# Altium footprint library SmartplugComponents.PcbLib: 13 footprints
Each footprint in its own frame and in the unit in brackets; x right, y up, seen from the top. Pads: shape width x height; smd on the part's side, far side on the other; paste and mask are expansions set on the pad; w line width, h text height; cw(c..) or ccw(c..) is an arc to the next point about the centre after c.
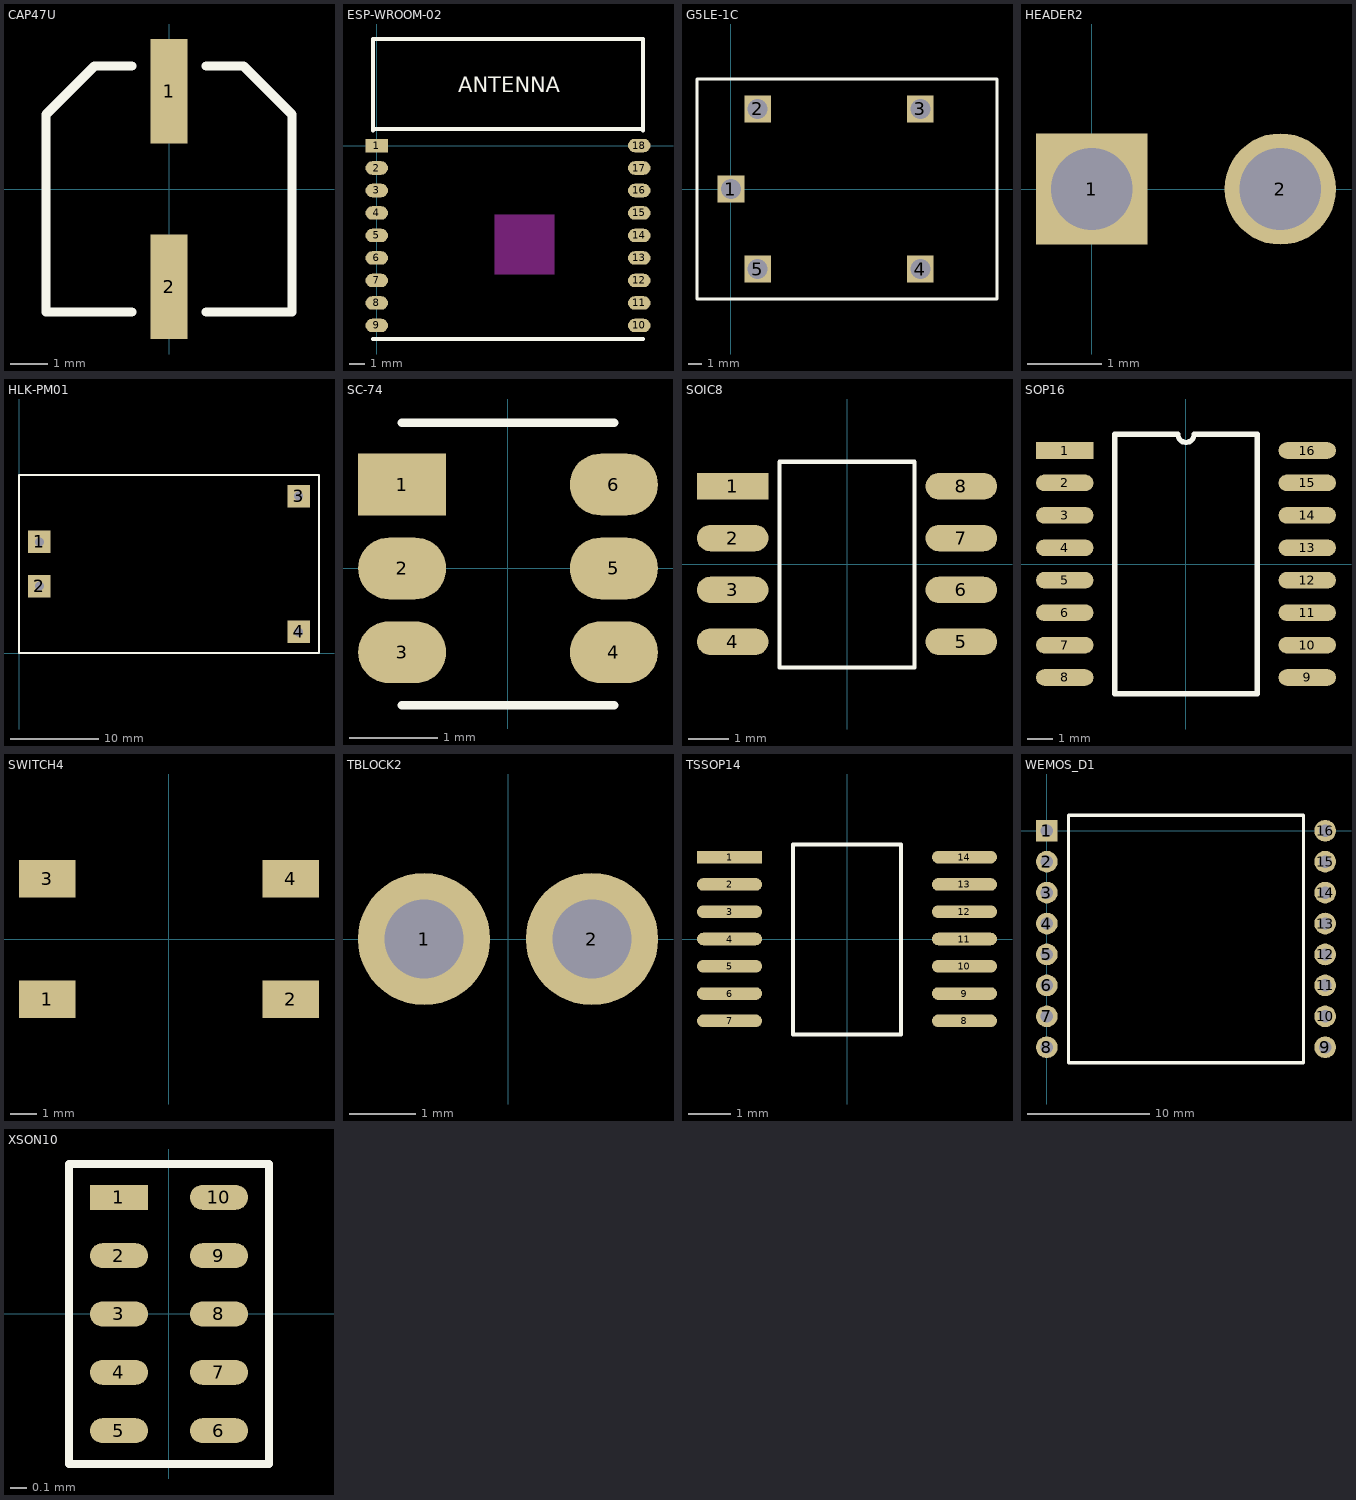
[diagram p0: the footprints below, top view; thin cyan lines are the x and y axes]

## CAP47U [mm]
pads (2):
  rect 1x2.8 smd: 1(0,2.625) 2(0,-2.625)
Top Overlay:
  lines w0.25: -1,-3.3 -3.3,-3.3 -3.3,2 -2,3.3 -1,3.3 ; 1,-3.3 3.3,-3.3 3.3,2 2,3.3 1,3.3
3D body "CAP_UCD_6P3X5P8.step": height 6.15, standoff 0, extent -3.352,-3.546 3.252,3.846

## ESP-WROOM-02 [mm]
pads (18):
  rect 1.5x0.9 smd: 1(0,0)
  oval 1.5x0.9 smd: 2(0,-1.5) 3(0,-3) 4(0,-4.5) 5(0,-6) 6(0,-7.5) 7(0,-9) 8(0,-10.5) 9(0,-12) 10(17.5,-12) 11(17.5,-10.5) 12(17.5,-9) 13(17.5,-7.5) 14(17.5,-6) 15(17.5,-4.5) 16(17.5,-3) 17(17.5,-1.5) 18(17.5,0)
Top Overlay:
  lines w0.25: -0.25,-12.9 17.75,-12.9 ; -0.25,1 -0.25,7.1 17.75,7.1 17.75,1 ; -0.25,1.1 17.75,1.1
  text "ANTENNA" at 5.45,3.55 h1.02
Keep-Out Layer:
  rectangle: 7.85,-8.61 11.85,-4.61
3D body "ESP-WROOM-02D.STEP": height 3.3, standoff 0, extent 0.05,-12.95 18.05,7.05

## G5LE-1C [mm]
pads (5):
  rect 2x2 hole 1.5: 1(0,0) 2(2,6) 3(14.2,6) 4(14.2,-6) 5(2,-6)
Top Overlay:
  lines w0.25: -2.55,-8.25 -2.55,8.25 19.95,8.25 19.95,-8.25 -2.55,-8.25
3D body "G5LE.STEP": height 19.5, standoff -3, extent -2.5,-8.2 20,8.3

## HEADER2 [mm]
pads (2):
  rect 1.5x1.5 hole 1.1: 1(0,0)
  round 1.5 hole 1.1: 2(2.54,0)
3D body "1x2 Male-Pin-Header.STEP": height 10.54, standoff -3, extent -1.343,-1.3 3.743,1.2

## HLK-PM01 [mm]
pads (4):
  rect 2.54x2.54 hole 1.016: 1(2.3,12.6) 2(2.3,7.6) 3(31.7,17.8) 4(31.7,2.4)
Top Overlay:
  lines w0.254: 0,0 34,0 34,20.2 0,20.2 0,0
3D body: height 15, standoff 0, extent 0,0 34,20.2

## SC-74 [mm]
pads (6):
  rect 1x0.7 smd mask+0.05: 1(-1.2,0.95)
  oval 1x0.7 smd mask+0.05: 2(-1.2,0) 3(-1.2,-0.95) 4(1.2,-0.95) 5(1.2,0) 6(1.2,0.95)
Top Overlay:
  lines w0.1: -1.2,-1.55 1.2,-1.55 ; -1.2,1.65 1.2,1.65
3D body "SC74-6.step": height 1.09, standoff 0, extent -1.395,-1.549 1.295,1.549

## SOIC8 [mm]
pads (8):
  rect 1.75x0.65 smd: 1(-2.8,1.905)
  oval 1.75x0.65 smd: 2(-2.8,0.635) 3(-2.8,-0.635) 4(-2.8,-1.905) 5(2.8,-1.905) 6(2.8,-0.635) 7(2.8,0.635) 8(2.8,1.905)
Top Overlay:
  lines w0.1: -1.65,-2.54 1.65,-2.54 1.65,2.505 -1.65,2.505 -1.65,-2.54
3D body "SOIC8-N_MC.step": height 1.76, standoff 0, extent -2.947,-2.451 3.047,2.451

## SOP16 [mm]
pads (16):
  rect 2.25x0.65 smd: 1(-4.75,4.445)
  oval 2.25x0.65 smd: 2(-4.75,3.175) 3(-4.75,1.905) 4(-4.75,0.635) 5(-4.75,-0.635) 6(-4.75,-1.905) 7(-4.75,-3.175) 8(-4.75,-4.445) 9(4.75,-4.445) 10(4.75,-3.175) 11(4.75,-1.905) 12(4.75,-0.635) 13(4.75,0.635) 14(4.75,1.905) 15(4.75,3.175) 16(4.75,4.445)
Top Overlay:
  lines w0.2: -2.79,-5.08 2.79,-5.08 2.79,5.08 0.318,5.08 cw(c0,5.08) -0.318,5.08 -2.79,5.08 -2.79,-5.08
3D body: height 10, standoff 0, extent -3.25,-5.15 -3.25,-5.15
3D body: height 2.65, standoff 0, extent -3.75,-5.15 3.75,5.15

## SWITCH4 [mm]
pads (4):
  rect 2.1x1.4 smd: 1(-4.55,-2.25) 2(4.55,-2.25) 3(-4.55,2.25) 4(4.55,2.25)
3D body "c-1977223-6-a-3d.stp": height 4.31, standoff -0.1, extent -5,-3 5,3

## TBLOCK2 [mm]
pads (2):
  round 2 hole 1.2: 1(-1.27,0) 2(1.27,0)
3D body: height 0.25, standoff -6.5, extent -0.92,0.05 -0.92,0.05
3D body "c-282834-2-c-3d.stp": height 10, standoff -3.4, extent -2.77,-3.2 2.77,3.3

## TSSOP14 [mm]
pads (14):
  rect 1.55x0.3 smd: 1(-2.8,1.95)
  oval 1.55x0.3 smd: 2(-2.8,1.3) 3(-2.8,0.65) 4(-2.8,0) 5(-2.8,-0.65) 6(-2.8,-1.3) 7(-2.8,-1.95) 8(2.8,-1.95) 9(2.8,-1.3) 10(2.8,-0.65) 11(2.8,0) 12(2.8,0.65) 13(2.8,1.3) 14(2.8,1.95)
Top Overlay:
  lines w0.1: -1.29,-2.275 1.29,-2.275 1.29,2.25 -1.29,2.25 -1.29,-2.275
3D body "SN74LVC00A-Q1.stp": height 1.13, standoff 0, extent -3.2,-2.5 3.2,2.5

## WEMOS_D1 [mil]
pads (16):
  rect 70x70 hole 40: 1(0,0)
  round 70 hole 40: 2(0,-100) 3(0,-200) 4(0,-300) 5(0,-400) 6(0,-500) 7(0,-600) 8(0,-700) 9(900,-700) 10(900,-600) 11(900,-500) 12(900,-400) 13(900,-300) 14(900,-200) 15(900,-100) 16(900,0)
Top Overlay:
  lines w10: 70,-750 70,50 830,50 830,-750 70,-750
3D body "WiFi-D1-MINI.step": height 236.22, standoff -321.09, extent -61.76,-1003.94 951.52,344.41

## XSON10 [mm]
pads (10):
  rect 0.35x0.15 smd mask+0.05: 1(-0.3,0.7)
  oval 0.35x0.15 smd mask+0.05: 2(-0.3,0.35) 3(-0.3,0) 4(-0.3,-0.35) 5(-0.3,-0.7) 6(0.3,-0.7) 7(0.3,-0.35) 8(0.3,0) 9(0.3,0.35) 10(0.3,0.7)
Top Overlay:
  lines w0.05: -0.6,-0.9 0.6,-0.9 0.6,0.9 -0.6,0.9 -0.6,-0.9
3D body: height 0.5, standoff 0, extent -0.5,-0.85 0.5,0.85